# EAGLE library part ADS7041IRUGR (library ADS7041IRUG)
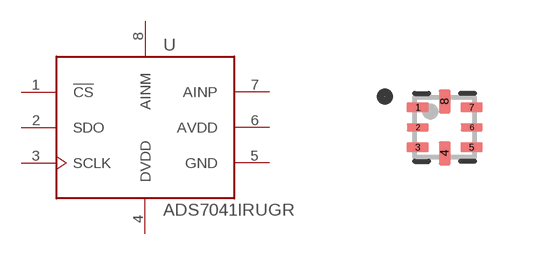
[diagram p0: symbol with the pads of QFN50P150X150X40-8N; footprint QFN50P150X150X40-8N]

Designator prefix U

## ADS7041IRUGR  [QFN50P150X150X40-8N]
1  !CS!  in
2  SDO  out
3  SCLK  in
4  DVDD  pwr
5  GND  pwr
6  AVDD  pwr
7  AINP  in
8  AINM  in

## Footprint QFN50P150X150X40-8N (pad centres in mm)
smd 0.55 x 0.25: 1 -0.675,0.5; 3 -0.675,-0.5; 5 0.675,-0.5; 7 0.675,0.5
smd 0.55 x 0.2: 2 -0.675,0; 6 0.675,0
smd 0.3 x 0.6: 4 0,-0.65; 8 0,0.65